# Altium schematic symbol library ACS712ELCTR-20A-T.SchLib: 1 symbol
Pins are listed as number, name and electrical type; pins without a type are passive.

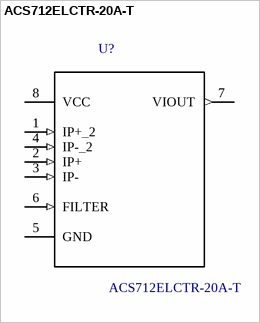
[diagram p0: symbol ACS712ELCTR-20A-T]

## ACS712ELCTR-20A-T
designator U?
Fully Integrated, Hall Effect-Based Linear Current Sensor IC with 2.1 kVRMS Voltage Isolation and a Low-Resistance Cu...; MF: Allegro; Package: SOIC-8 Allegro MicroSystems LLC; Price: 2.95 USD; MP: ACS712ELCTR-20A-T; Availability: Good; SnapEDA_Link: https://www.snapeda.com/parts/ACS712ELCTR-20A-T/Allegro%20Industries/view-part/?ref=snap; Value: *
footprint SOIC127P600X175-8N
pins: 1 IP+_2 (in), 2 IP+ (in), 3 IP- (in), 4 IP-_2 (in), 5 GND, 6 FILTER (in), 7 VIOUT (out), 8 VCC (power)